# Altium integrated library Passives.IntLib: 11 symbols
Pins are listed as number, name and electrical type; pins without a type are passive.

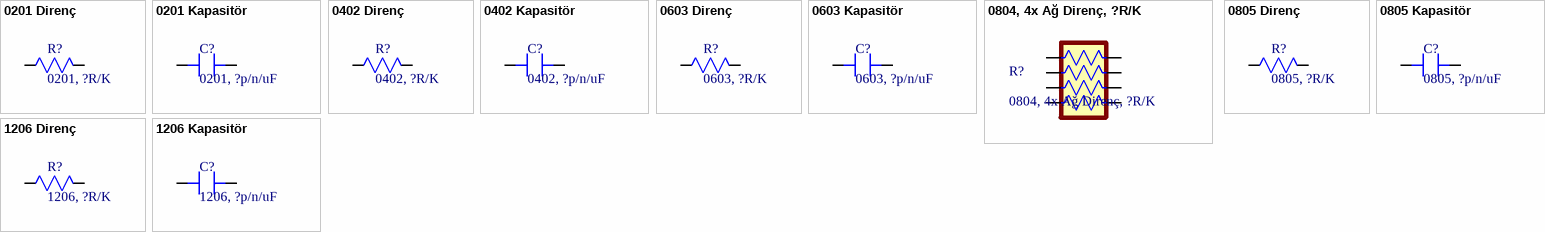
[diagram p0: symbols 0201 Direnç to 1206 Kapasitör]

## 0201 Direnç
designator R?, comment 0201, ?R/K
footprint RES 0201_0603 (Chip Resistor, 2-Leads, Body 0.60x0.30mm, IPC Medium Density)
pins: 1, 2

## 0201 Kapasitör
designator C?, comment 0201, ?p/n/uF
footprint CAP 0201_0603 (Chip Capacitor, 2-Leads, Body 0.60x0.30mm, IPC Medium Density)
pins: 1, 2

## 0402 Direnç
designator R?, comment 0402, ?R/K
footprint RES 0402_1005 (Chip Resistor, 2-Leads, Body 1.0x0.5mm, IPC Medium Density)
pins: 1, 2

## 0402 Kapasitör
designator C?, comment 0402, ?p/n/uF
footprint CAP 0402_1005 (Chip Capacitor, 2-Leads, Body 1.02x0.51mm, IPC Medium Density)
pins: 1, 2

## 0603 Direnç
designator R?, comment 0603, ?R/K
footprint RES 0603_1608 (Chip Resistor, 2-Leads, Body 1.60x0.80mm, IPC Medium Density)
pins: 1, 2

## 0603 Kapasitör
designator C?, comment 0603, ?p/n/uF
footprint CAP 0603_1608 (Chip Capacitor, 2-Leads, Body 1.60x0.80mm, IPC Medium Density)
pins: 1, 2

## 0804, 4x Ağ Direnç, ?R/K
designator R?
footprint RESNET 0804-8 CONCAVE (4 resistor 2.0x1.0mm, 0.5mm high)
pins: 1, 2 1, 3 1, 4 1, 5 2, 6 2, 7 2, 8 2

## 0805 Direnç
designator R?, comment 0805, ?R/K
footprint RES 0805_2012 (Chip Resistor, 2-Leads, Body 2.00x1.25mm, IPC Medium Density)
pins: 1, 2

## 0805 Kapasitör
designator C?, comment 0805, ?p/n/uF
footprint CAP 0805_2012 (Chip Capacitor, 2-Leads, Body 2.00x1.20mm, IPC Medium Density)
pins: 1, 2

## 1206 Direnç
designator R?, comment 1206, ?R/K
footprint RES 1206_3216 (Chip Resistor, 2-Leads, Body 3.13x1.55mm, IPC Medium Density)
pins: 1, 2

## 1206 Kapasitör
designator C?, comment 1206, ?p/n/uF
footprint CAP 1206_3216 (Chip Capacitor, 2-Leads, Body 3.25x1.60mm, IPC Medium Density)
pins: 1, 2